# Altium footprint library MICRO USB 5PIN SINK-1.0.PcbLib: 1 footprints
Each footprint in its own frame and in the unit in brackets; x right, y up, seen from the top. Pads: shape width x height; smd on the part's side, far side on the other; paste and mask are expansions set on the pad; w line width, h text height; cw(c..) or ccw(c..) is an arc to the next point about the centre after c.
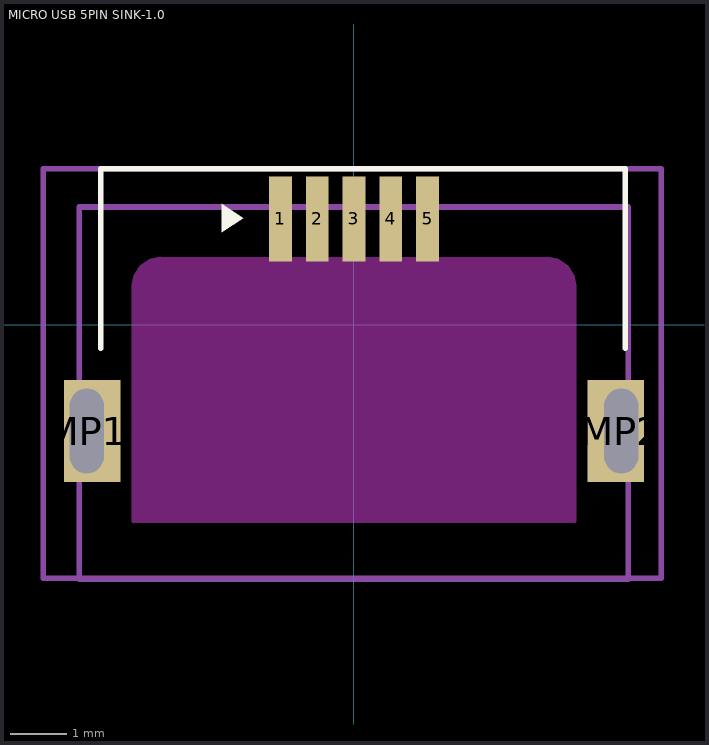
[diagram p0: the footprint, top view; thin cyan lines are the x and y axes]

## MICRO USB 5PIN SINK-1.0 [mm]
pads (7):
  rect 0.4x1.5 smd: 1(-1.3,1.875) 2(-0.65,1.875) 3(0,1.875) 4(0.65,1.875) 5(1.3,1.875)
  rect 1x1.8 hole 0.6 slot 1.5 at 90 deg copper offset 0.1,0: MP1(-4.725,-1.875)
  rect 1x1.8 hole 0.6 slot 1.5 at 90 deg copper offset -0.1,0: MP2(4.725,-1.875)
Top Overlay:
  region: -1.959,1.891 -2.34,2.145 -2.34,1.637
  lines w0.1: -4.475,-0.411 -4.475,2.764 4.796,2.764 4.796,-0.411
Keep-Out Layer:
  board cut-out: -3.925,-3.475 -3.927,0.702 -3.924,0.71 -3.924,0.709 -3.929,0.71 -3.895,0.88 -3.779,1.054 -3.605,1.17 -3.435,1.204 -3.434,1.199 -3.435,1.199 -3.427,1.202 -3.427,1.2 3.419,1.202 3.424,1.2 3.425,1.206 3.605,1.17 3.779,1.054 3.895,0.88 3.931,0.7 3.925,0.699 3.927,0.694 3.925,0.694 3.927,-3.475 3.919,-3.494 3.9,-3.502 3.9,-3.5 -3.9,-3.502 -3.919,-3.494 -3.927,-3.475
  lines w0.05: -3.9,0.694 cw(c-3.4,0.675) -3.381,1.175 ; -3.9,0.702 -3.9,-3.475 3.9,-3.475 3.9,0.694 ; -3.427,1.175 3.419,1.175 cw(c3.4,0.675) 3.9,0.656
Mechanical 13:
  lines w0.1: -4.855,-4.498 -4.855,2.085 4.845,2.085 4.845,-4.498 -4.855,-4.498
Mechanical 15:
  lines w0.1: -5.491,-4.475 -5.491,2.764 5.431,2.764 5.431,-4.475 -5.491,-4.475
3D body: height 1.68, standoff -1.28, extent -4.855,-4.498 4.845,2.085